# Altium footprint library SO.PcbLib: 4 footprints
Each footprint in its own frame and in the unit in brackets; x right, y up, seen from the top. Pads: shape width x height; smd on the part's side, far side on the other; paste and mask are expansions set on the pad; w line width, h text height; cw(c..) or ccw(c..) is an arc to the next point about the centre after c.
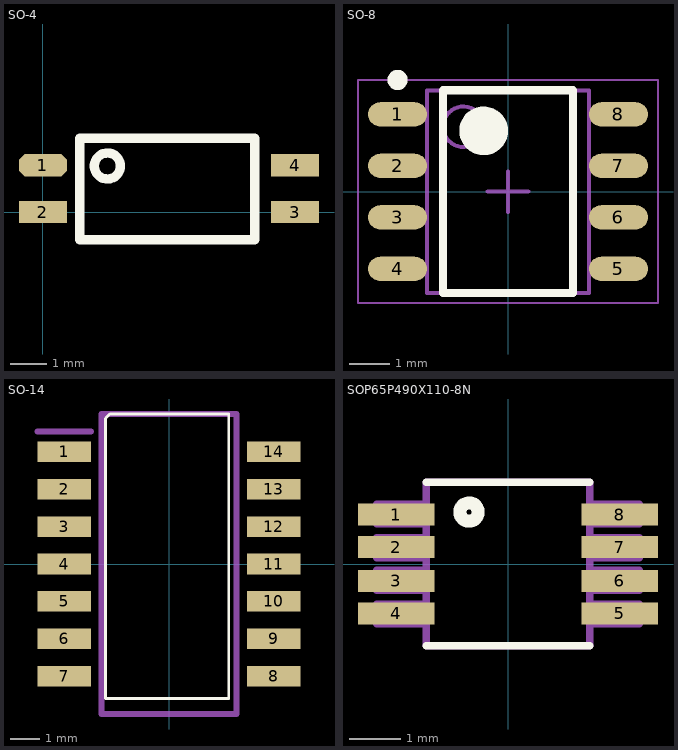
[diagram p0: the footprints below, top view; thin cyan lines are the x and y axes]

## SO-4 [mm]
pads (4):
  oct 1.3x0.6 smd: 1(0,1.27)
  rect 1.3x0.6 smd: 2(0,0) 3(6.85,0) 4(6.85,1.27)
Top Overlay:
  circle w0.254: c1.75,1.25 r0.354
  lines w0.254: 1,-0.75 1,2 5.75,2 5.75,-0.75 1,-0.75
3D body: height 2.1, standoff 0, extent 1.25,-0.75 5.75,1.75

## SO-8 [mm] "SOIC, 8-Leads, Body 4,91x3,90mm, Pitch 1,27mm, IPC Medium Density"
height 1.75
pads (8):
  oval 1.45x0.6 smd: 1(-2.725,1.905) 2(-2.725,0.635) 3(-2.725,-0.635) 4(-2.725,-1.905) 5(2.725,-1.905) 6(2.725,-0.635) 7(2.725,0.635) 8(2.725,1.905)
Top Overlay:
  circle w0.6: c-0.6,1.5 r0.3
  circle w0.25: c-2.725,2.755 r0.125
  lines w0.2: -1.6,-2.5 1.6,-2.5 1.6,2.5 -1.6,2.5 -1.6,-2.5
occupied area:
  circle w0.1: c-1.1,1.6 r0.5
  lines w0.1: -2,-2.5 2,-2.5 2,2.5 -2,2.5 -2,-2.5
Mechanical 15:
  lines w0.05: -3.7,-2.75 3.7,-2.75 3.7,2.75 -3.7,2.75 -3.7,-2.75
  lines w0.1: -0.5,0 0.5,0 ; 0,-0.5 0,0.5
3D body: height 1.75, standoff 0.11, extent -2,-2.5 2,2.5

## SO-14 [mm]
pads (14):
  rect 1.825x0.7 smd: 1(-3.562,3.81) 2(-3.562,2.54) 3(-3.562,1.27) 4(-3.562,0) 5(-3.562,-1.27) 6(-3.562,-2.54) 7(-3.562,-3.81) 8(3.562,-3.81) 9(3.562,-2.54) 10(3.562,-1.27) 11(3.562,0) 12(3.562,1.27) 13(3.562,2.54) 14(3.562,3.81)
Top Overlay:
  lines w0.1: -2.159,-4.572 2.032,-4.572 2.032,5.1 -2.012,5.1 -2.159,4.953 -2.159,-4.572
Mechanical 22:
  lines w0.2: -4.475,4.51 -2.65,4.51 ; -2.3,-5.1 2.3,-5.1 2.3,5.1 -2.3,5.1 -2.3,-5.1
3D body: height 2, standoff 0, extent -2.921,-4.953 3.175,5.207

## SOP65P490X110-8N [mil]
pads (8):
  rect 59x17 smd: 1(-86,38) 2(-86,13) 3(-86,-13) 4(-86,-38) 5(86,-38) 6(86,-13) 7(86,13) 8(86,38)
Top Overlay:
  circle w10: c-30,40 r7.07
  lines w6: -63,-63 63,-63 ; -63,63 -12,63 12,63 63,63
Mechanical 15:
  lines w6: -101,-46 -63,-46 -63,-31 -101,-31 -101,-46 ; -101,-20 -63,-20 -63,-5 -101,-5 -101,-20 ; -101,5 -63,5 -63,20 -101,20 -101,5 ; -101,31 -63,31 -63,46 -101,46 -101,31 ; -63,-63 -63,63 -12,63 12,63 63,63 63,-63 -63,-63 ; 63,-46 101,-46 101,-31 63,-31 63,-46 ; 63,-20 101,-20 101,-5 63,-5 63,-20 ; 63,5 101,5 101,20 63,20 63,5 ; 63,31 101,31 101,46 63,46 63,31
3D body: height 43.31, standoff 0, extent -62.99,-62.99 62.99,62.99